# Altium integrated library LIS3DHTR.IntLib: 1 symbol
Pins are listed as number, name and electrical type; pins without a type are passive.

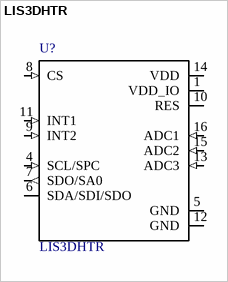
[diagram p0: symbol LIS3DHTR]

## LIS3DHTR
designator U?
MEMS digital output motion sensor ultra low-power high performance 3-axes; MF: STMicroelectronics; Price: 0.99 USD; Package: LGA-16 STMicroelectronics; MP: LIS3DHTR; Value: *
footprint LGA16R50P5X3_300X300X100N
pins: 1 VDD_IO (power), 4 SCL/SPC (in), 5 GND (power), 6 SDA/SDI/SDO (io), 7 SDO/SA0 (out), 8 CS (in), 9 INT2 (in), 10 RES (power), 11 INT1 (in), 12 GND (power), 13 ADC3 (in), 14 VDD (power), 15 ADC2 (in), 16 ADC1 (in)